# Altium footprint library ProgrammingHeader.PcbLib: 1 footprints
Each footprint in its own frame and in the unit in brackets; x right, y up, seen from the top. Pads: shape width x height; smd on the part's side, far side on the other; paste and mask are expansions set on the pad; w line width, h text height; cw(c..) or ccw(c..) is an arc to the next point about the centre after c.
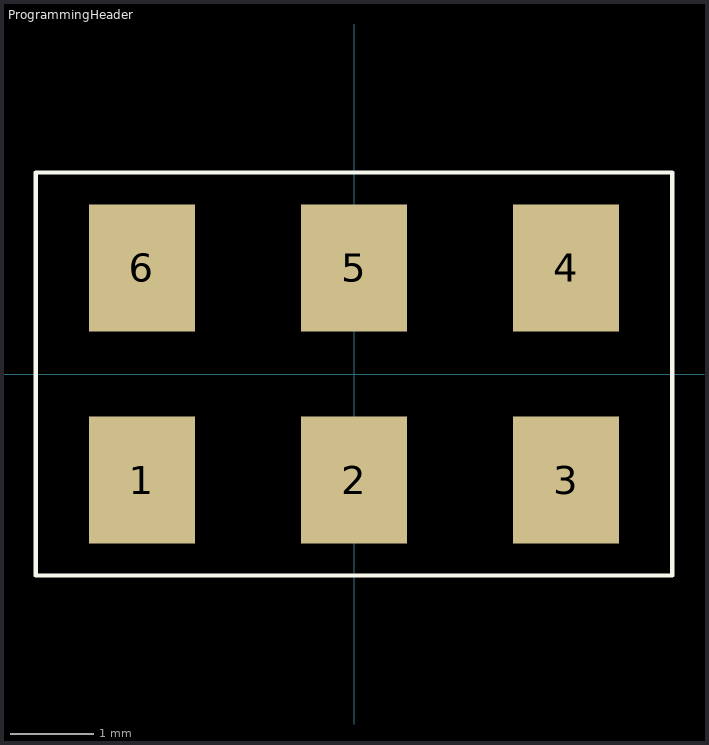
[diagram p0: the footprint, top view; thin cyan lines are the x and y axes]

## ProgrammingHeader [mil] "Programming Header"
pads (6):
  rect 50x60 smd: 1(-100,-50) 2(0,-50) 3(100,-50) 4(100,50) 5(0,50) 6(-100,50)
Top Overlay:
  lines w2: -150,-95 150,-95 150,95 -150,95 -150,-95